# EAGLE library part BA33DD0WHFP-TR (library BA33DD0WHFP)
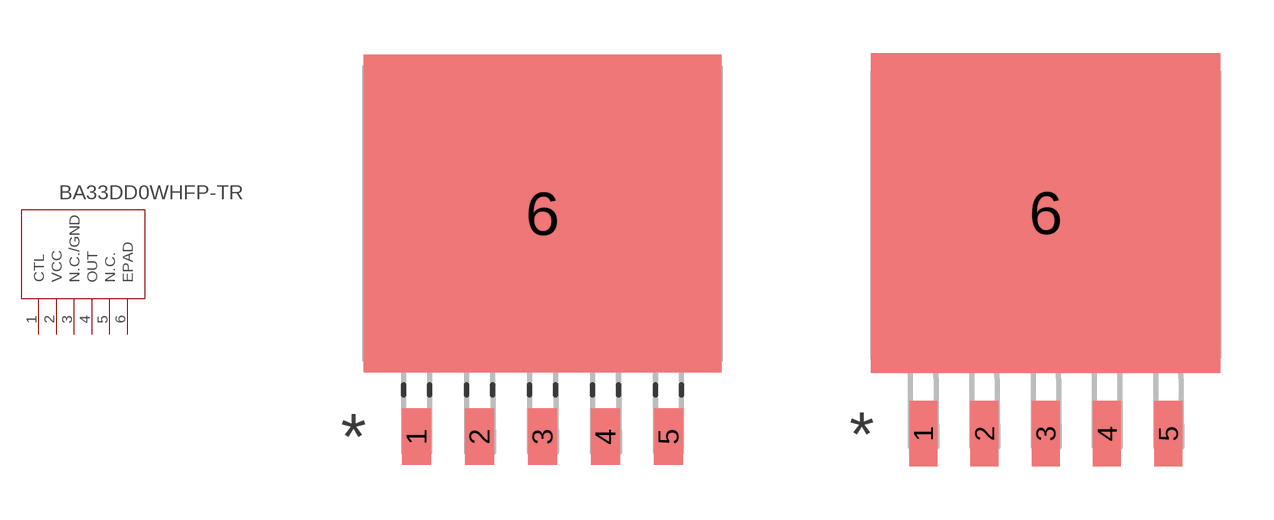
[diagram p0: symbol with the pads of HRP5_ROM; footprints HRP5_ROM, HRP5_ROM-M]

Designator prefix U

## BA33DD0WHFP-TR (BUILT_BY: EMA_Molly; COPYRIGHT: Copyright (C) 2018 Accelerated Designs. All rights reserved; MANUFACTURER_PART_NUMBER: BA33DD0WHFP-TR; SOURCELIBRARY: ROHM_2019-10-21; VENDOR: ROHM Semiconductor)  [HRP5_ROM]
1  CTL  pas
2  VCC  pwr
3  N.C./GND  nc
4  OUT  out
5  N.C.  nc
6  EPAD  pas

## BA33DD0WHFP-TRHRP5_ROM-M (BUILT_BY: EMA_Molly; COPYRIGHT: Copyright (C) 2018 Accelerated Designs. All rights reserved; MANUFACTURER_PART_NUMBER: BA33DD0WHFP-TR; SOURCELIBRARY: ROHM_2019-10-21; VENDOR: ROHM Semiconductor)  [HRP5_ROM-M]
Pads as for HRP5_ROM

## BA33DD0WHFP-TRHRP5_ROM-L (BUILT_BY: EMA_Molly; COPYRIGHT: Copyright (C) 2018 Accelerated Designs. All rights reserved; MANUFACTURER_PART_NUMBER: BA33DD0WHFP-TR; SOURCELIBRARY: ROHM_2019-10-21; VENDOR: ROHM Semiconductor)  [HRP5_ROM-L]
Pads as for HRP5_ROM

## Footprint HRP5_ROM (pad centres in mm)
smd 0.787 x 1.549: 1 -3.454,-6.121; 2 -1.727,-6.121; 3 0,-6.121; 4 1.727,-6.121; 5 3.454,-6.121
smd 9.804 x 8.712: 6 0,0

## Footprint HRP5_ROM-M (pad centres in mm)
smd 0.787 x 1.854: 1 -3.454,-6.172; 2 -1.727,-6.172; 3 0,-6.172; 4 1.727,-6.172; 5 3.454,-6.172
smd 9.855 x 9.017: 6 0,0.051

## Footprint HRP5_ROM-L (pad centres in mm)
smd 0.737 x 1.245: 1 -3.454,-6.071; 2 -1.727,-6.071; 3 0,-6.071; 4 1.727,-6.071; 5 3.454,-6.071
smd 9.754 x 8.407: 6 0,-0.051